# Altium integrated library 2-644861-2.IntLib: 1 symbol
Pins are listed as number, name and electrical type; pins without a type are passive.

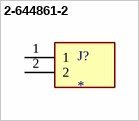
[diagram p0: symbol 2-644861-2]

## 2-644861-2
designator J?
02P MTA100 SHRD HDR,W/O PEG SN; Number_of_Positions: 2; Centerline_Pitch: 2.54 mm[.1 in]; MP: 2-644861-2; Product_Type: Connector; MF: TE Connectivity; Value: *; SnapEDA_Link: https://www.snapeda.com/parts/2-644861-2/TE+Connectivity+AMP+Connectors/view-part/?ref=snap; Package: None; Check_prices: https://www.snapeda.com/parts/2-644861-2/TE+Connectivity+AMP+Connectors/view-part/?ref=eda; Digi-Key_Part_Number: A30931-ND; Purchase-URL: https://pricing.snapeda.com/search/part/2-644861-2/?ref=eda
footprint TE_2-644861-2
pins: 1, 2